# EAGLE library part CS4384 (library 25cmsquare)
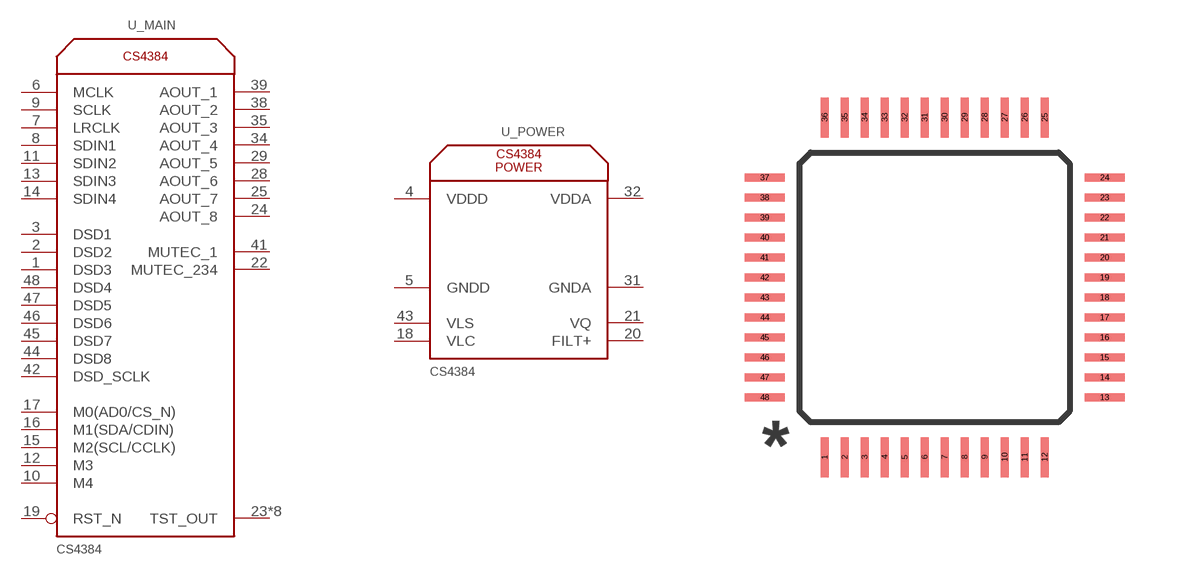
[diagram p19: symbol with the pads of LQFP_48; footprint LQFP_48]

Designator prefix -; gates _MAIN=CS4384 _POWER=CS3484-POWER

## CS4384  [LQFP_48]
1  _MAIN:DSD3
2  _MAIN:DSD2
3  _MAIN:DSD1
4  _POWER:VDDD
5  _POWER:GNDD
6  _MAIN:MCLK
7  _MAIN:LRCLK
8  _MAIN:SDIN1
9  _MAIN:SCLK
10  _MAIN:M4
11  _MAIN:SDIN2
12  _MAIN:M3
13  _MAIN:SDIN3
14  _MAIN:SDIN4
15  _MAIN:M2(SCL/CCLK)
16  _MAIN:M1(SDA/CDIN)
17  _MAIN:M0(AD0/CS_N)
18  _POWER:VLC
19  _MAIN:RST_N  in
20  _POWER:FILT+
21  _POWER:VQ
22  _MAIN:MUTEC_234
23  _MAIN:TST_OUT
24  _MAIN:AOUT_8
25  _MAIN:AOUT_7
26  _MAIN:TST_OUT
27  _MAIN:TST_OUT
28  _MAIN:AOUT_6
29  _MAIN:AOUT_5
30  _MAIN:TST_OUT
31  _POWER:GNDA
32  _POWER:VDDA
33  _MAIN:TST_OUT
34  _MAIN:AOUT_4
35  _MAIN:AOUT_3
36  _MAIN:TST_OUT
37  _MAIN:TST_OUT
38  _MAIN:AOUT_2
39  _MAIN:AOUT_1
40  _MAIN:TST_OUT
41  _MAIN:MUTEC_1
42  _MAIN:DSD_SCLK
43  _POWER:VLS
44  _MAIN:DSD8
45  _MAIN:DSD7
46  _MAIN:DSD6
47  _MAIN:DSD5
48  _MAIN:DSD4

## Footprint LQFP_48 (pad centres in mm)
smd 0.2 x 1: 1 -2.75,-4.25; 2 -2.25,-4.25; 3 -1.75,-4.25; 4 -1.25,-4.25; 5 -0.75,-4.25; 6 -0.25,-4.25; 7 0.25,-4.25; 8 0.75,-4.25; 9 1.25,-4.25; 10 1.75,-4.25; 11 2.25,-4.25; 12 2.75,-4.25; 25 2.75,4.25; 26 2.25,4.25; 27 1.75,4.25; 28 1.25,4.25; 29 0.75,4.25; 30 0.25,4.25; 31 -0.25,4.25; 32 -0.75,4.25; 33 -1.25,4.25; 34 -1.75,4.25; 35 -2.25,4.25; 36 -2.75,4.25
smd 1 x 0.2: 13 4.25,-2.75; 14 4.25,-2.25; 15 4.25,-1.75; 16 4.25,-1.25; 17 4.25,-0.75; 18 4.25,-0.25; 19 4.25,0.25; 20 4.25,0.75; 21 4.25,1.25; 22 4.25,1.75; 23 4.25,2.25; 24 4.25,2.75; 37 -4.25,2.75; 38 -4.25,2.25; 39 -4.25,1.75; 40 -4.25,1.25; 41 -4.25,0.75; 42 -4.25,0.25; 43 -4.25,-0.25; 44 -4.25,-0.75; 45 -4.25,-1.25; 46 -4.25,-1.75; 47 -4.25,-2.25; 48 -4.25,-2.75